# Altium footprint library SM_SC70-5.PcbLib: 1 footprints
Each footprint in its own frame and in the unit in brackets; x right, y up, seen from the top. Pads: shape width x height; smd on the part's side, far side on the other; paste and mask are expansions set on the pad; w line width, h text height; cw(c..) or ccw(c..) is an arc to the next point about the centre after c.
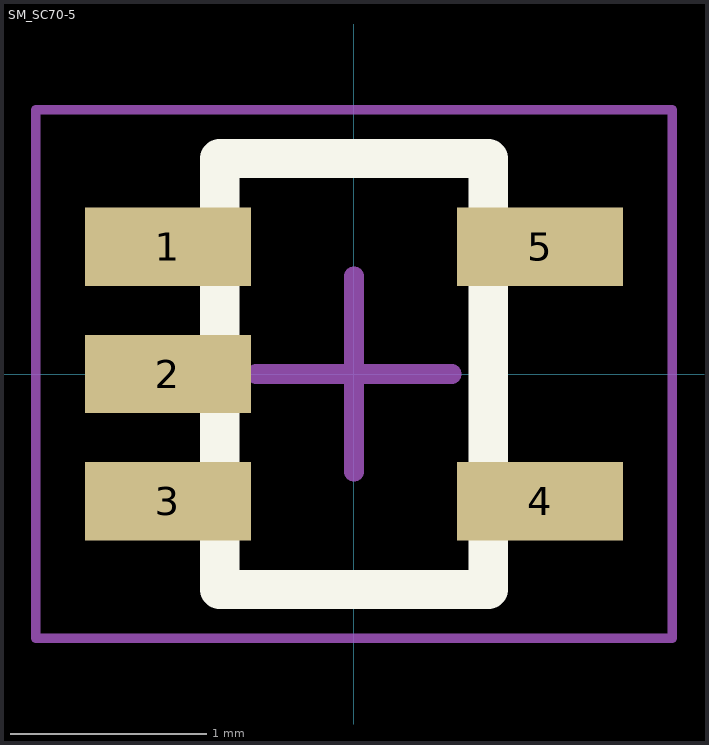
[diagram p0: the footprint, top view; thin cyan lines are the x and y axes]

## SM_SC70-5 [mm]
pads (5):
  rect 0.85x0.4 smd: 1(-0.95,0.65) 2(-0.95,0) 3(-0.95,-0.65) 4(0.95,-0.65) 5(0.95,0.65)
Top Overlay:
  lines w0.2: -0.686,-1.1 -0.686,1.1 0.686,1.1 0.686,-1.1 -0.686,-1.1
Mechanical 13:
  lines w0.1: -0.7,-1.1 0.7,-1.1 0.7,1.1 -0.7,1.1 -0.7,-1.1
Mechanical 15:
  lines w0.05: -1.625,-1.35 1.625,-1.35 1.625,1.35 -1.625,1.35 -1.625,-1.35
  lines w0.1: -0.5,0 0.5,0 ; 0,-0.5 0,0.5
3D body: height 1.1, standoff 0, extent -0.7,-1.1 0.7,1.1